# EAGLE library part MOTOR_DRIVER_MODULE (library motor_driver_module_library)
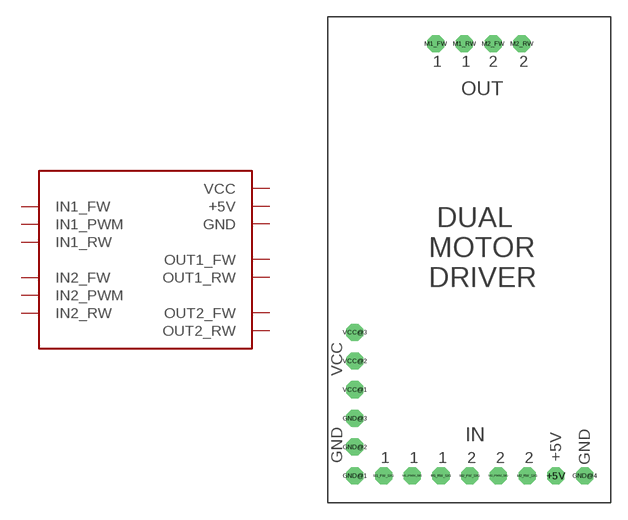
[diagram p0: symbol with the pads of MOTOR_DRIVER_MODULE; footprint MOTOR_DRIVER_MODULE]

Designator prefix -

## MOTOR_DRIVER_MODULE  [MOTOR_DRIVER_MODULE]
+5V  +5V  pwr
GND@1  GND  pwr
GND@2  GND  pwr
GND@3  GND  pwr
GND@4  GND  pwr
M1_FW  OUT1_FW  out
M1_FW_SIG  IN1_FW  in
M1_PWM_SIG  IN1_PWM  in
M1_RW  OUT1_RW  out
M1_RW_SIG  IN1_RW  in
M2_FW  OUT2_FW  out
M2_FW_SIG  IN2_FW  in
M2_PWM_SIG  IN2_PWM  in
M2_RW  OUT2_RW  out
M2_RW_SIG  IN2_RW  in
VCC@1  VCC  pwr
VCC@2  VCC  pwr
VCC@3  VCC  pwr

## Footprint MOTOR_DRIVER_MODULE (pad centres in mm)
drill 1 octagon: +5V 7.461,-20.479; GND@1 -10.319,-20.479; GND@2 -10.319,-17.939; GND@3 -10.319,-15.399; GND@4 10.001,-20.479; M1_FW -3.175,17.78; M1_FW_SIG -7.779,-20.479; M1_PWM_SIG -5.239,-20.479; M1_RW -0.635,17.78; M1_RW_SIG -2.699,-20.479; M2_FW 1.905,17.78; M2_FW_SIG -0.159,-20.479; M2_PWM_SIG 2.381,-20.479; M2_RW 4.445,17.78; M2_RW_SIG 4.921,-20.479; VCC@1 -10.319,-12.859; VCC@2 -10.319,-10.319; VCC@3 -10.319,-7.779